# EAGLE library part TFORM_4_4 (library dubec)
2P-2S transformer
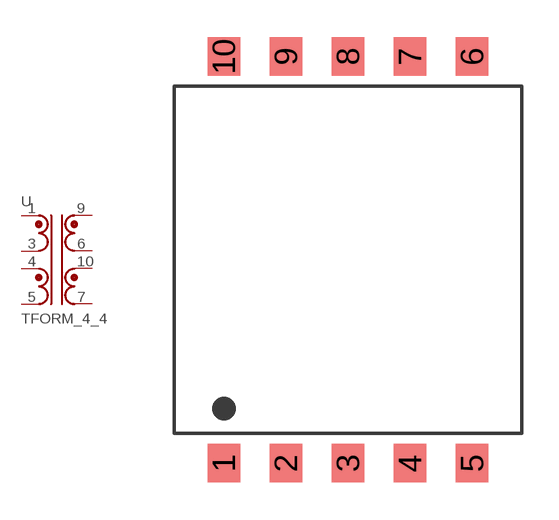
[diagram p23: symbol with the pads of EPQ13; footprint EPQ13]

Designator prefix -

## TFORM_4_4311_4A4 (DIGIKEY_PART_#: 732-6198-1-ND; EPK: 3600.00; FREQ: 200 ~ 400kHz; IND: 21µH @ 100kHz; MANUFACTURER: Wurth Electronics Inc; MFG_PART_#: 7491195501; MOUSER_PART_#: 710-7491195501)  [EPQ13]
1  1  pas
3  2  pas
4  3  pas
5  4  pas
6  7  pas
7  5  pas
9  8  pas
10  6  pas

## Footprint EPQ13 (pad centres in mm)
smd 1.3 x 1.55: 1 -5,-8.2; 2 -2.5,-8.2; 3 0,-8.2; 4 2.5,-8.2; 5 5,-8.2; 6 5,8.2; 7 2.5,8.2; 8 0,8.2; 9 -2.5,8.2; 10 -5,8.2